# Altium schematic symbol library HY2.0.SchLib: 1 symbol
Pins are listed as number, name and electrical type; pins without a type are passive.

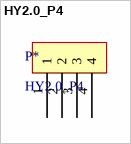
[diagram p0: symbol HY2.0_P4]

## HY2.0_P4
designator P*
footprint HY2.0_P4
pins: 1, 2, 3, 4